# Altium footprint library TYPEC.PcbLib: 1 footprints
Each footprint in its own frame and in the unit in brackets; x right, y up, seen from the top. Pads: shape width x height; smd on the part's side, far side on the other; paste and mask are expansions set on the pad; w line width, h text height; cw(c..) or ccw(c..) is an arc to the next point about the centre after c.
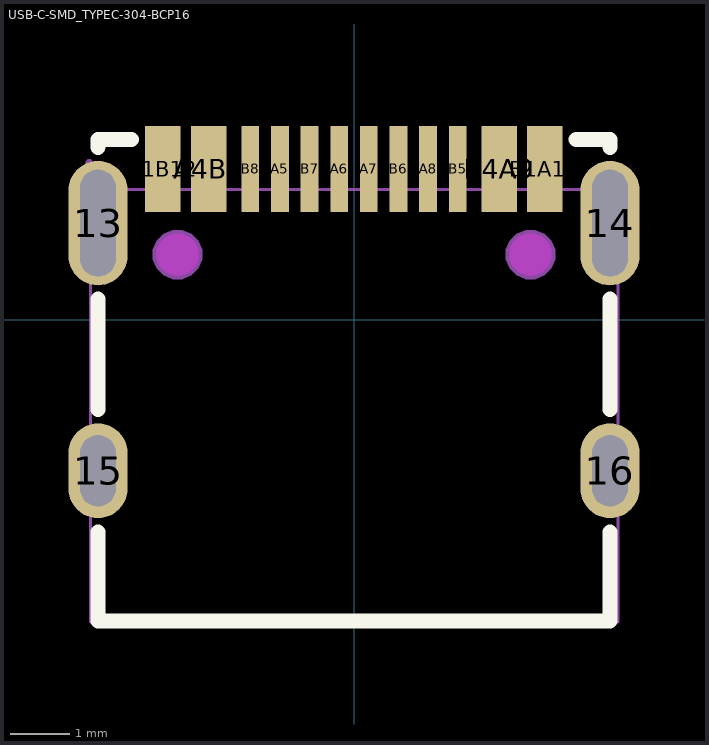
[diagram p0: the footprint, top view; thin cyan lines are the x and y axes]

## USB-C-SMD_TYPEC-304-BCP16 [mil]
pads (16):
  oval 39.4x82.7 hole 23.6 slot 70.9 at 90 deg mask+2: 13(-170.1,64.3) 14(170.1,64.3)
  oval 39.4x63 hole 23.6 slot 47.2 at 90 deg mask+2: 15(-170.1,-100.3) 16(170.1,-100.3)
  rect 23.6x57.1 smd mask+2: A1B12(-127,100.3) A4B9(-96.5,100.3) B1A12(126.8,100.3) B4A9(96.5,100.3)
  rect 11.8x57.1 smd mask+2: A5(-49.2,100.3) A6(-9.8,100.3) A7(9.8,100.3) A8(49.2,100.3) B5(68.9,100.3) B6(29.5,100.3) B7(-29.5,100.3) B8(-68.9,100.3)
Top Overlay:
  lines w10: -170,-140.9 -170,-200 170,-200 170,-140.9 ; -170,-59.7 -170,13.8 ; -170,114.7 -170,120 -147.9,120 ; 147.7,120 170,120 170,114.7 ; 170,-59.7 170,13.8
Keep-Out Layer:
  board cut-out: -103.5,43.4 -103.5,46.14 -105.6,51.22 -109.48,55.1 -114.56,57.2 -120.05,57.2 -125.12,55.1 -129,51.22 -131.1,46.14 -131.1,43.4 -131.1,40.66 -129,35.58 -125.12,31.7 -120.05,29.6 -114.56,29.6 -109.48,31.7 -105.6,35.58 -103.5,40.66 -103.5,43.4
  board cut-out: 131.1,43.4 131.1,46.14 129,51.22 125.12,55.1 120.04,57.2 114.56,57.2 109.48,55.1 105.6,51.22 103.5,46.14 103.5,43.4 103.5,40.66 105.6,35.58 109.48,31.7 114.56,29.6 120.04,29.6 125.12,31.7 129,35.58 131.1,40.66 131.1,43.4
Mechanical 1:
  circle w0.2: c-117.3,43.4 r13.8
  circle w0.2: c117.3,43.4 r13.8
Mechanical 15:
  circle w2: c-117.3,43.4 r6.9
  circle w2: c117.3,43.4 r6.9
  region: 164.2,-84.5 176,-84.5 176,-116 164.2,-116
  region: -176,-84.5 -164.2,-84.5 -164.2,-116 -176,-116
  region: 164.2,84.9 176,84.9 176,43.6 164.2,43.6
  region: -176,84.9 -164.2,84.9 -164.2,43.6 -176,43.6
  region: 118.9,104.2 134.6,104.2 134.6,72.7 118.9,72.7
  region: 88.6,104.2 104.3,104.2 104.3,72.7 88.6,72.7
  region: -104.3,104.2 -88.6,104.2 -88.6,72.7 -104.3,72.7
  region: -134.8,104.2 -119.1,104.2 -119.1,72.7 -134.8,72.7
  region: 65,104.2 72.8,104.2 72.8,72.7 65,72.7
  region: 45.3,104.2 53.2,104.2 53.2,72.7 45.3,72.7
  region: 25.6,104.2 33.5,104.2 33.5,72.7 25.6,72.7
  region: 5.9,104.2 13.8,104.2 13.8,72.7 5.9,72.7
  region: -13.8,104.2 -5.9,104.2 -5.9,72.7 -13.8,72.7
  region: -33.5,104.2 -25.6,104.2 -25.6,72.7 -33.5,72.7
  region: -53.5,103.6 -45.7,103.6 -45.7,72.1 -53.5,72.1
  region: -72.8,104.2 -65,104.2 -65,72.7 -72.8,72.7
  region: -173.6,104.2 -173.6,105.19 -175.01,106.6 -176.99,106.6 -178.4,105.19 -178.4,104.2 -178.4,103.21 -176.99,101.8 -175.01,101.8 -173.6,103.21 -173.6,104.2
  region: -101,43.4 -101,46.64 -103.48,52.63 -108.07,57.22 -114.06,59.7 -120.54,59.7 -126.53,57.22 -131.12,52.63 -133.6,46.64 -133.6,43.4 -133.6,40.16 -131.12,34.17 -126.53,29.58 -120.54,27.1 -114.06,27.1 -108.07,29.58 -103.48,34.17 -101,40.16 -101,43.4
  region: 133.6,43.4 133.6,46.64 131.12,52.63 126.53,57.22 120.54,59.7 114.06,59.7 108.07,57.22 103.48,52.63 101,46.64 101,43.4 101,40.16 103.48,34.17 108.07,29.58 114.06,27.1 120.54,27.1 126.53,29.58 131.12,34.17 133.6,40.16 133.6,43.4
  lines w2: -175,-200.8 -175,86.6 175.4,86.6 175.4,-200.8 -175,-200.8